# EAGLE library part S1011EXX (library Bauteile)
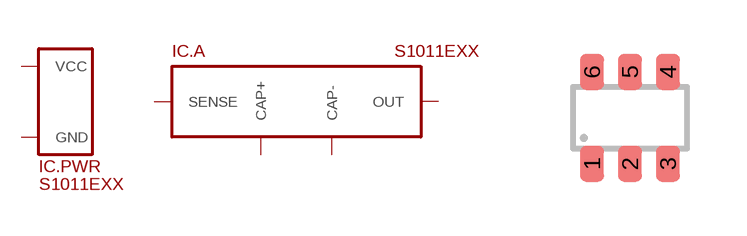
[diagram p60: symbol with the pads of SOT23-6; footprint SOT23-6]

Designator prefix IC; gates .PWR=SUPPLY_VCC/GND .A=S1011EXX

## S1011EXX  [SOT23-6]
1  .PWR:VCC
2  .A:SENSE
3  .A:OUT
4  .A:CAP+
5  .PWR:GND
6  .A:CAP-

## Footprint SOT23-6 (pad centres in mm)
SOT23-6 SOT26 SC59-6 SC74 TSOP-6 MO-178AB SMT6 SM6 Mini6 SOT457
smd 0.6 x 0.9: 1 -0.95,-1.15; 2 0,-1.15; 3 0.95,-1.15; 4 0.95,1.15; 5 0,1.15; 6 -0.95,1.15